# EAGLE library part AMC1350DWVR (library AMC1350DWVR)
SOIC Source: Datasheet <https://www.ti.com/lit/ds/symlink/amc1350.pdf?ts=1632455585396&ref_url=https%3A%2F%2Fwww.ti.com%2Fstore%2Fti%2Fen%2Fp%2Fproduct%2F%3Fp%3DPAMC1350DWVR>
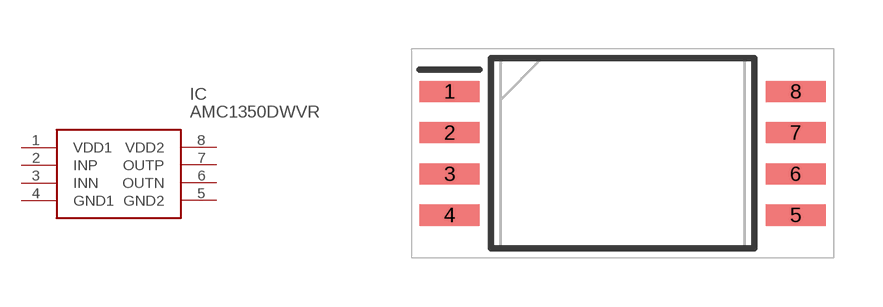
[diagram p0: symbol with the pads of SOIC127P1150X280-8N; footprint SOIC127P1150X280-8N]

Designator prefix IC

## AMC1350DWVR (Description: SOIC; Height: 2.8mm; Manufacturer_Name: Texas Instruments; Manufacturer_Part_Number: AMC1350DWVR; Mouser_Part_Number: 595-AMC1350DWVR; Mouser_Price-Stock: https://www.mouser.co.uk/ProductDetail/Texas-Instruments/AMC1350DWVR?qs=Rp5uXu7WBW%2FANH2mDTT%252Bkg%3D%3D)  [SOIC127P1150X280-8N]
1  VDD1
2  INP
3  INN
4  GND1
5  GND2
6  OUTN
7  OUTP
8  VDD2

## Footprint SOIC127P1150X280-8N (pad centres in mm)
DWV0008A
smd 1.85 x 0.65: 1 -5.325,1.905; 2 -5.325,0.635; 3 -5.325,-0.635; 4 -5.325,-1.905; 5 5.325,-1.905; 6 5.325,-0.635; 7 5.325,0.635; 8 5.325,1.905